# Altium schematic symbol library SquarePad.SchLib: 1 symbol
Pins are listed as number, name and electrical type; pins without a type are passive.

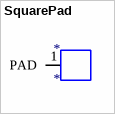
[diagram p0: symbol SquarePad]

## SquarePad
designator *
footprint Pad3x3mm
pins: 1 PAD